# Altium footprint library Inductors.PcbLib: 1 footprints
Each footprint in its own frame and in the unit in brackets; x right, y up, seen from the top. Pads: shape width x height; smd on the part's side, far side on the other; paste and mask are expansions set on the pad; w line width, h text height; cw(c..) or ccw(c..) is an arc to the next point about the centre after c.
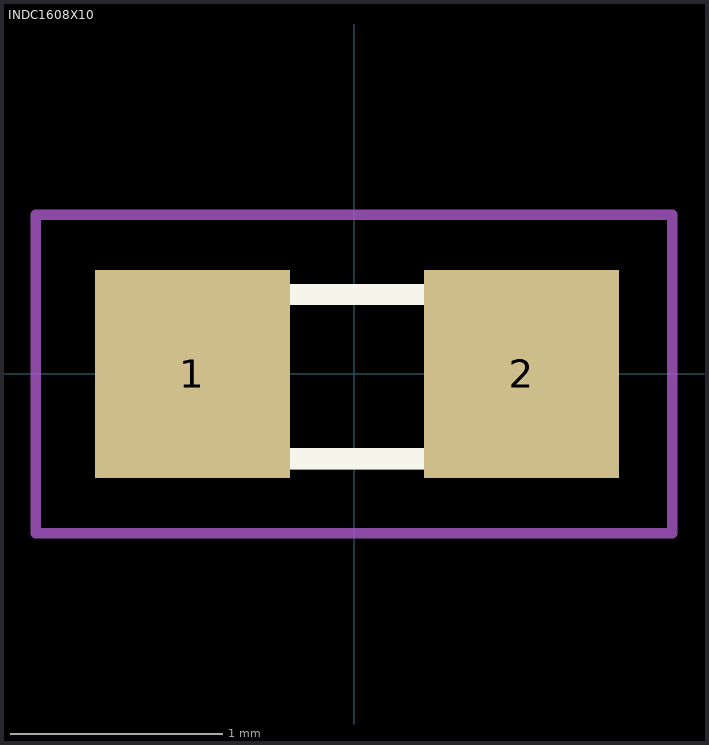
[diagram p0: the footprint, top view; thin cyan lines are the x and y axes]

## INDC1608X10 [mm] "Chip Inductor, 2-Leads, Body 1.60x0.80mm, IPC Medium Density"
height 0.95
pads (2):
  rect 0.92x0.98 smd: 1(-0.762,0) 2(0.79,0)
Top Overlay:
  lines w0.1: -0.875,-0.4 -0.875,0.375 0.9,0.375 0.9,-0.4 -0.875,-0.4
Mechanical 2:
  lines w0.05: -1.5,-0.75 -1.5,0.75 1.5,0.75 1.5,-0.75 -1.5,-0.75
  lines w0.1: -0.875,-0.4 0.9,-0.4 0.9,0.375 -0.875,0.375 -0.875,-0.4
3D body "INDUCTOR_0603.step": height 1, standoff 0, extent -0.775,-0.4 0.825,0.4